# EAGLE library part HEADER_POS6_? (library con-molex-micro-fit-3_0)
Molex - Micro-Fit 3.0 Series connector, 3.00mm (0.118") pitch header, 6 positions.
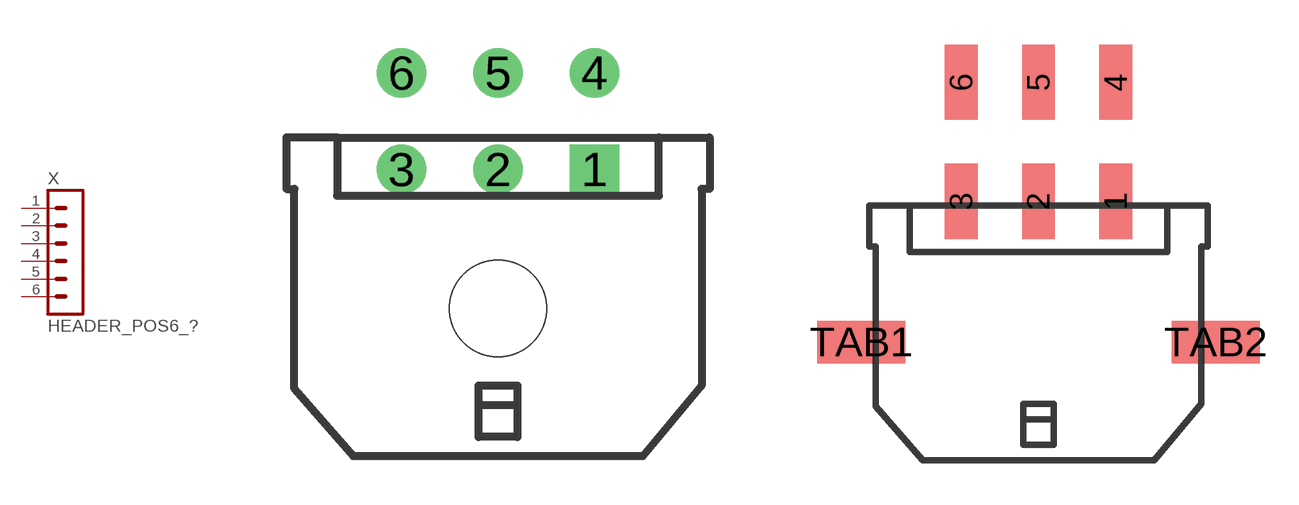
[diagram p0: symbol with the pads of 43045-0600; footprints 43045-0600, 43045-0609]

Designator prefix X

## HEADER_POS6_43045-0600  [43045-0600]
1  1  pas
2  2  pas
3  3  pas
4  4  pas
5  5  pas
6  6  pas

## HEADER_POS6_43045-0609  [43045-0609]
Pads as for 43045-0600

## HEADER_POS6_43045-0606  [43045-0606]
Pads as for 43045-0600

## HEADER_POS6_43045-0612  [43045-0612]
Pads as for 43045-0600

## HEADER_POS6_43045-0615  [43045-0615]
Pads as for 43045-0600

## HEADER_POS6_43045-0618  [43045-0618]
Pads as for 43045-0600

## HEADER_POS6_44914-0601  [44914-0601]
Pads as for 43045-0600

## HEADER_POS6_43650-0615  [43650-0615]
Pads as for 43045-0600

## HEADER_POS6_43650-0621  [43650-0621]
Pads as for 43045-0600

## HEADER_POS6_43650-0624  [43650-0624]
Pads as for 43045-0600

## HEADER_POS6_43650-0600  [43650-0600]
Pads as for 43045-0600

## HEADER_POS6_43650-0609  [43650-0609]
1  2  pas
2  1  pas
3  3  pas
4  4  pas
5  5  pas
6  6  pas

## HEADER_POS6_43650-0612  [43650-0612]
Pads as for 43045-0600

## HEADER_POS6_44769-0601  [44769-0601]
Pads as for 43045-0600

## HEADER_POS6_44432-0601  [44432-0601]
Pads as for 43045-0600

## HEADER_POS6_44428-0601  [44428-0601]
Pads as for 43045-0600

## HEADER_POS6_44764-0601  [44764-0601]
Pads as for 43045-0600

## Footprint 43045-0600 (pad centres in mm)
Molex Micro-Fit 3.0 - Header Shrouded, Thru hole, Right Angle; P/N: SD-43045-0600, SD-43045-0601, SD-43045-0602 http://www.molex.com/pdm_docs/sd/430450200_sd.pdf
drill 1.02 square: 1 3,4.32
drill 1.02: 2 0,4.32; 3 -3,4.32; 4 3,7.32; 5 0,7.32; 6 -3,7.32
hole 3 at 0,0

## Footprint 43045-0609 (pad centres in mm)
Molex Micro-Fit 3.0 - Header Shrouded, Surface mount, Right Angle, Solderable tabs; P/N: SD-43045-0609, SD-43045-0610, SD-43045-0611 http://www.molex.com/pdm_docs/sd/430450209_sd.pdf
smd 1.27 x 2.92: 1 3,5.47; 2 0,5.47; 3 -3,5.47; 4 3,10.1; 5 0,10.1; 6 -3,10.1
smd 3.43 x 1.65: TAB1 -6.88,0; TAB2 6.88,0

## Footprint 43045-0606 (pad centres in mm)
Molex Micro-Fit 3.0 - Header Shrouded, Surface mount, Right Angle, Solderable Retention clips; P/N: SD-43045-0606, SD-43045-0607, SD-43045-0608 http://www.molex.com/pdm_docs/sd/430450206_sd.pdf
smd 1.27 x 2.92: 1 3,5.47; 2 0,5.47; 3 -3,5.47; 4 3,10.1; 5 0,10.1; 6 -3,10.1
hole 2.41 at -5.15,0
hole 2.41 at 5.15,0

## Footprint 43045-0612 (pad centres in mm)
Molex Micro-Fit 3.0 - Header Shrouded, Thru hole, Vertical, with Pegs; P/N: SD-43045-0612, SD-43045-0613, SD-43045-0614 http://www.molex.com/pdm_docs/sd/430450212_sd.pdf
drill 1.02 square: 1 3,0
drill 1.02: 2 0,0; 3 -3,0; 4 3,3; 5 0,3; 6 -3,3
hole 1.02 at 6,3.94
hole 1.02 at -6,3.94

## Footprint 43045-0615 (pad centres in mm)
Molex Micro-Fit 3.0 - Header Shrouded, Surface mount, Vertical, with Solderable Retention Clips; P/N: SD-43045-0615, SD-43045-0616, SD-43045-0617 http://www.molex.com/pdm_docs/sd/430450215_sd.pdf
smd 1.27 x 2.54: 1 3,-4.7; 2 0,-4.7; 3 -3,-4.7; 4 3,4.7; 5 0,4.7; 6 -3,4.7
hole 2.41 at -5.15,0
hole 2.41 at 5.15,0

## Footprint 43045-0618 (pad centres in mm)
Molex Micro-Fit 3.0 - Header Shrouded, Surface mount, Vertical, with Solder Tabs; P/N: SD-43045-0618, SD-43045-0619, SD-43045-0620 http://www.molex.com/pdm_docs/sd/430450218_sd.pdf
smd 1.27 x 2.54: 1 3,-4.7; 2 0,-4.7; 3 -3,-4.7; 4 3,4.7; 5 0,4.7; 6 -3,4.7
smd 3.43 x 1.65: CLIP1 -6.88,0; CLIP2 6.88,0

## Footprint 44914-0601 (pad centres in mm)
Molex Micro-Fit 3.0 - Header Shrouded, Thru hole, Vertical, Press-fit, with Pegs; P/N: SD-44914-0601, SD-44914-0602, SD-44914-0603 http://www.molex.com/pdm_docs/sd/449140201_sd.pdf
drill 1.09 square: 1 3,0
drill 1.09: 2 0,0; 3 -3,0; 4 3,3; 5 0,3; 6 -3,3
hole 1.02 at 6,3.94
hole 1.02 at -6,3.94

## Footprint 43650-0615 (pad centres in mm)
Molex Micro-Fit 3.0 - Header Shrouded, Thru hole, Vertical, with Pegs; P/N: SD-43650-0615, SD-43650-0616, SD-43650-0617 http://www.molex.com/pdm_docs/sd/436500215_sd.pdf
drill 1.02 square: 1 7.5,0
drill 1.02: 2 4.5,0; 3 1.5,0; 4 -1.5,0; 5 -4.5,0; 6 -7.5,0
hole 1.27 at 10.5,-1.96
hole 1.27 at -10.5,-1.96

## Footprint 43650-0621 (pad centres in mm)
Molex Micro-Fit 3.0 - Header Shrouded, Thru hole, Vertical, with Solderable Retention Clips; P/N: SD-43650-0621, SD-43650-0622, SD-43650-0623 http://www.molex.com/pdm_docs/sd/436500221_sd.pdf
smd 1.27 x 2.54: 1 7.5,3.43; 2 4.5,3.43; 3 1.5,3.43; 4 -1.5,3.43; 5 -4.5,3.43; 6 -7.5,3.43
hole 2.41 at 9.65,0
hole 2.41 at -9.65,0

## Footprint 43650-0624 (pad centres in mm)
Molex Micro-Fit 3.0 - Header Shrouded, Thru hole, Vertical, with Solder Tabs; P/N: SD-43650-0624, SD-43650-0625, SD-43650-0626 http://www.molex.com/pdm_docs/sd/436500224_sd.pdf
smd 1.27 x 2.54: 1 7.5,3.43; 2 4.5,3.43; 3 1.5,3.43; 4 -1.5,3.43; 5 -4.5,3.43; 6 -7.5,3.43
smd 3.43 x 1.65: TAB1 11.39,0; TAB2 -11.39,0

## Footprint 43650-0600 (pad centres in mm)
Molex Micro-Fit 3.0 - Header Shrouded, Thru hole, Right Angle, with Pegs; P/N: SD-43650-0600, SD-43650-0601, SD-43650-0602 http://www.molex.com/pdm_docs/sd/436500200_sd.pdf
drill 1.02 square: 1 7.5,4.32
drill 1.02: 2 4.5,4.32; 3 1.5,4.32; 4 -1.5,4.32; 5 -4.5,4.32; 6 -7.5,4.32
hole 3 at 5.35,0
hole 3 at -5.35,0

## Footprint 43650-0609 (pad centres in mm)
Molex Micro-Fit 3.0 - Header Shrouded, Thru hole, Right Angle, with Solderable Retention Clips; P/N: SD-43650-0609, SD-43650-0610, SD-43650-0611 http://www.molex.com/pdm_docs/sd/436500209_sd.pdf
smd 1.27 x 2.92: 1 7.5,5.48; 2 4.5,5.48; 3 1.5,5.48; 4 -1.5,5.48; 5 -4.5,5.48; 6 -7.5,5.48
hole 2.41 at 9.65,0
hole 2.41 at -9.65,0

## Footprint 43650-0612 (pad centres in mm)
Molex Micro-Fit 3.0 - Header Shrouded, Surface mount, Right Angle, with Solderable tabs; P/N: SD-43650-0612, SD-43650-0613, SD-43650-0614 http://www.molex.com/pdm_docs/sd/436500212_sd.pdf
smd 1.27 x 2.92: 1 7.5,5.48; 2 4.5,5.48; 3 1.5,5.48; 4 -1.5,5.48; 5 -4.5,5.48; 6 -7.5,5.48
smd 3.43 x 1.65: TAB1 11.38,0; TAB2 -11.38,0

## Footprint 44769-0601 (pad centres in mm)
Molex Micro-Fit 3.0 - Board-to-Board BMI (Blind Mate Interface), Receptacle Vertical, Thru hole; P/N: SD-44769-0601, SD-44769-0602, SD-44769-0603 http://www.molex.com/pdm_docs/sd/447690401_sd.pdf
drill 1.02 square: 1 -3,0
drill 1.02: 2 0,0; 3 3,0; 4 -3,3; 5 0,3; 6 3,3
hole 2.36 at 6,3
hole 2.36 at -6,3

## Footprint 44432-0601 (pad centres in mm)
Molex Micro-Fit 3.0 - Board-to-Board BMI (Blind Mate Interface), Header Vertical, Thru hole, with Pegs; P/N: SD-44432-0601, SD-44432-0602, SD-44432-0603 http://www.molex.com/pdm_docs/sd/444320401_sd.pdf
drill 1.02 square: 1 3,-3
drill 1.02: 2 0,-3; 3 -3,-3; 4 3,0; 5 0,0; 6 -3,0
hole 1.57 at -7.5,1.45
hole 1.57 at 7.5,1.45

## Footprint 44428-0601 (pad centres in mm)
Molex Micro-Fit 3.0 - Board-to-Board BMI (Blind Mate Interface), Header Right Angle, Thru hole, with Pegs; P/N: SD-44428-0601, SD-44428-0602, SD-44428-0603 http://www.molex.com/pdm_docs/sd/444280401_sd.pdf
drill 1.02 square: 1 3,0
drill 1.02: 2 0,0; 3 -3,0; 4 3,3; 5 0,3; 6 -3,3
hole 3 at 0,-8.53

## Footprint 44764-0601 (pad centres in mm)
Molex Micro-Fit 3.0 - Board-to-Board BMI (Blind Mate Interface), Receptacle, Right Angle, Thru hole; P/N: SD-44764-0601, SD-44764-0602, SD-44764-0603 http://www.molex.com/pdm_docs/sd/447640401_sd.pdf
drill 1.02 square: 1 -1.5,0
drill 1.02: 2 1.5,0; 3 4.5,0; 4 -1.5,3; 5 1.5,3; 6 4.5,3
hole 2.36 at 0,-3.05